# Altium footprint library CAP-SMD_BD6.3-L6.5-W6.5-LS7.0-FD.PcbLib: 1 footprints
Each footprint in its own frame and in the unit in brackets; x right, y up, seen from the top. Pads: shape width x height; smd on the part's side, far side on the other; paste and mask are expansions set on the pad; w line width, h text height; cw(c..) or ccw(c..) is an arc to the next point about the centre after c.
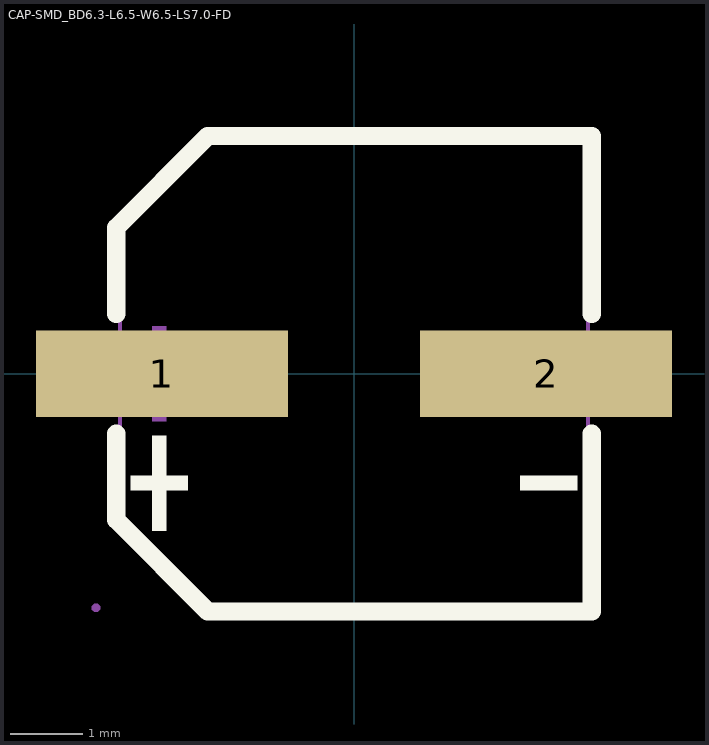
[diagram p0: the footprint, top view; thin cyan lines are the x and y axes]

## CAP-SMD_BD6.3-L6.5-W6.5-LS7.0-FD [mm]
pads (2):
  rect 3.5x1.2 smd: 1(-2.67,0) 2(2.67,0)
Top Overlay:
  region: 3.102,-1.419 3.102,-1.617 2.31,-1.617 2.31,-1.419
  region: -3.102,-1.419 -3.102,-1.617 -2.31,-1.617 -2.31,-1.419
  region: -2.805,-0.858 -2.805,-2.178 -2.607,-2.178 -2.607,-0.858
  lines w0.254: -3.302,-0.831 -3.302,-2.032 -2.032,-3.302 3.302,-3.302 3.302,-0.831 ; -3.302,0.831 -3.302,2.032 -2.032,3.302 -1.905,3.302 3.302,3.302 3.302,0.831 3.302,1.143
Mechanical 6:
  region: 3.102,0.099 3.102,-0.099 2.31,-0.099 2.31,0.099
  region: -3.102,0.099 -3.102,-0.099 -2.31,-0.099 -2.31,0.099
  region: -2.805,0.66 -2.805,-0.66 -2.607,-0.66 -2.607,0.66
Mechanical 15:
  region: 1.017,0.325 3.617,0.325 3.617,-0.325 1.017,-0.325
  region: -3.584,0.325 -0.984,0.325 -0.984,-0.325 -3.584,-0.325
  region: -3.524,-3.25 -3.525,-3.226 -3.559,-3.192 -3.608,-3.192 -3.643,-3.226 -3.643,-3.25 -3.643,-3.274 -3.608,-3.308 -3.559,-3.308 -3.525,-3.274 -3.524,-3.25
  lines w0.051: -3.25,-1.98 -3.25,1.98 -1.98,3.25 3.25,3.25 3.25,-3.25 -1.98,-3.25 -3.25,-1.98